# EAGLE library part USB-STACKED (library Connectors)
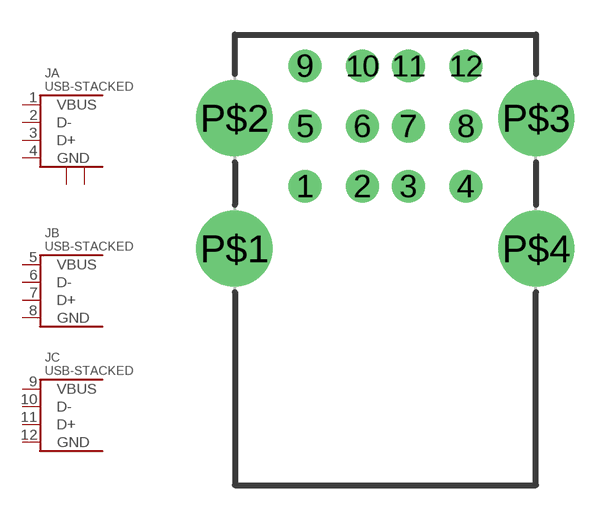
[diagram p5: symbol with the pads of USB-STACKED; footprint USB-STACKED]

Designator prefix J; gates A=USB-SHIELD B=USB C=USB

## USB-STACKED  [USB-STACKED]
1  A:VBUS
2  A:D-
3  A:D+
4  A:GND
5  B:VBUS
6  B:D-
7  B:D+
8  B:GND
9  C:VBUS
10  C:D-
11  C:D+
12  C:GND
P$1  A:P$1
P$2  A:P$1
P$3  A:P$2
P$4  A:P$2

## Footprint USB-STACKED (pad centres in mm)
drill 0.92: 1 -3.5,0; 2 -1,0; 3 1,0; 4 3.5,0; 5 -3.5,2.62; 6 -1,2.62; 7 1,2.62; 8 3.5,2.62; 9 -3.5,5.24; 10 -1,5.24; 11 1,5.24; 12 3.5,5.24
drill 2.3: P$1 -6.57,-2.71; P$2 -6.57,2.97; P$3 6.57,2.97; P$4 6.57,-2.71